# Altium schematic symbol library C_470nf.SchLib: 1 symbol
Pins are listed as number, name and electrical type; pins without a type are passive.

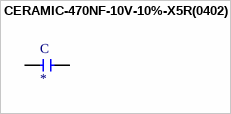
[diagram p0: symbol CERAMIC-470NF-10V-10%-X5R(0402)]

## CERAMIC-470NF-10V-10%-X5R(0402)
designator C
0.47ÂµF Â±10% 10V Ceramic Capacitor X5R 0402 (1005 Metric); MF: Yageo; MP: CC0402KRX5R6BB474; Availability: Unavailable; Arrow_Americas-Purchase-URL: https://snapeda.com/shop?store=Arrow+Americas&id=105580; Value: *; Price: None; Mouser-Purchase-URL: https://snapeda.com/shop?store=Mouser&id=105580; DigiKey-Purchase-URL: https://snapeda.com/shop?store=DigiKey&id=105580; SnapEDA_Link: https://www.snapeda.com/parts/CC0402KRX5R6BB474/Yageo/view-part/105580/?ref=snap; Package: 0402 Yageo
footprint C0402
pins: 1, 2